# Altium schematic symbol library 1881451.SchLib: 1 symbol
Pins are listed as number, name and electrical type; pins without a type are passive.

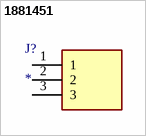
[diagram p0: symbol 1881451]

## 1881451
designator J?
Connector; Manufacturer_Name: Phoenix Contact; Manufacturer_Part_Number: 1881451; Datasheet Link: https://componentsearchengine.com/Datasheets/1/1881451.pdf; Height: 8.1mm; Mouser Part Number: 651-1881451; Mouser Price/Stock: https://www.mouser.com/Search/Refine.aspx?Keyword=651-1881451; RS Part Number: 3579543; RS Price/Stock: https://uk.rs-online.com/web/p/products/3579543
footprint SHDR3W100P0X250_1X3_940X1010X810P
pins: 1, 2, 3